# Altium schematic symbol library BH-127A-1.SchLib: 1 symbol
Pins are listed as number, name and electrical type; pins without a type are passive.

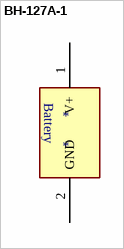
[diagram p0: symbol BH-127A-1]

## BH-127A-1
designator *
footprint banana
pins: 1 V+ (power), 2 GND (power)
text: Battery